# Altium schematic symbol library AT89C51_sch.SchLib: 1 symbol
Pins are listed as number, name and electrical type; pins without a type are passive.

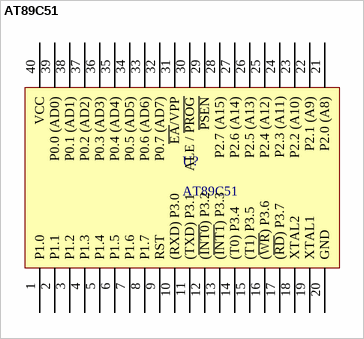
[diagram p0: symbol AT89C51]

## AT89C51
designator U?
Atmel 8 bit uC
footprint AT80C51 (Footprint not found)
pins: 1 P1.0, 2 P1.1, 3 P1.2, 4 P1.3, 5 P1.4, 6 P1.5, 7 P1.6, 8 P1.7, 9 RST, 10 (RXD) P3.0, 11 (TXD) P3.1, 12 (~{INT0}) P3.2, 13 (~{INT1}) P3.3, 14 (T0) P3.4, 15 (T1) P3.5, 16 (~{WR}) P3.6, 17 (~{RD}) P3.7, 18 XTAL2, 19 XTAL1, 20 GND, 21 P2.0 (A8), 22 P2.1 (A9), 23 P2.2 (A10), 24 P2.3 (A11), 25 P2.4 (A12), 26 P2.5 (A13), 27 P2.6 (A14), 28 P2.7 (A15), 29 ~{PSEN}, 30 ALE / ~{PROG}, 31 ~{EA}/VPP, 32 P0.7 (AD7), 33 P0.6 (AD6), 34 P0.5 (AD5), 35 P0.4 (AD4), 36 P0.3 (AD3), 37 P0.2 (AD2), 38 P0.1 (AD1) (power), 39 P0.0 (AD0), 40 VCC